# Altium integrated library driver_L289N.IntLib: 7 symbols
Pins are listed as number, name and electrical type; pins without a type are passive.

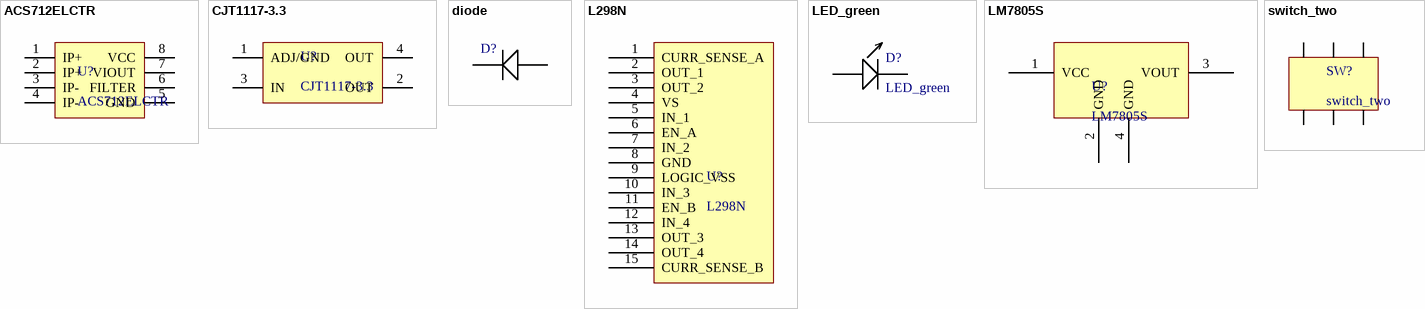
[diagram p0: symbols ACS712ELCTR to switch_two]

## ACS712ELCTR
designator U?
footprint ACS712ELCTR
pins: 1 IP+, 2 IP+, 3 IP-, 4 IP-, 5 GND, 6 FILTER, 7 VIOUT, 8 VCC

## CJT1117-3.3
designator U?
footprint CJT1117
pins: 1 ADJ/GND, 2 OUT, 3 IN, 4 OUT

## diode
designator D?  (value not drawn)
footprint diode
pins: 1 -, 2 +

## L298N
designator U?
footprint PCBComponent_1
pins: 1 CURR_SENSE_A, 2 OUT_1, 3 OUT_2, 4 VS, 5 IN_1, 6 EN_A, 7 IN_2, 8 GND, 9 LOGIC_VSS, 10 IN_3, 11 EN_B, 12 IN_4, 13 OUT_3, 14 OUT_4, 15 CURR_SENSE_B

## LED_green
designator D?
footprint LED
pins: 1 +, 2 +

## LM7805S
designator U?
footprint LM7805S
pins: 1 VCC, 2 GND, 3 VOUT, 4 GND

## switch_two
designator SW?
footprint switch_two
pins: 1 A, 2 A, 3 A, 4 A, 5 A, 6 A